# Altium integrated library NiceRF_LR2021.IntLib: 1 symbol
Pins are listed as number, name and electrical type; pins without a type are passive.

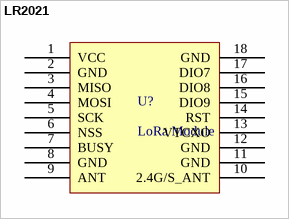
[diagram p0: symbol LR2021]

## LR2021
designator U?, comment LoRa Module
LoRa2021: 160mW Multi-Band Wireless Communication Module
footprint LR2021 (LoRa2021: 160mW Multi-Band Wireless Communication Module)
pins: 1 VCC, 2 GND, 3 MISO, 4 MOSI, 5 SCK, 6 NSS, 7 BUSY, 8 GND, 9 ANT, 10 2.4G/S_ANT, 11 GND, 12 GND, 13 VTCXO, 14 RST, 15 DIO9, 16 DIO8, 17 DIO7, 18 GND